# EAGLE library part TA_NDK (library print-key)
SMD Switch not through-hole / SMD Taster nicht durchkontaktiert
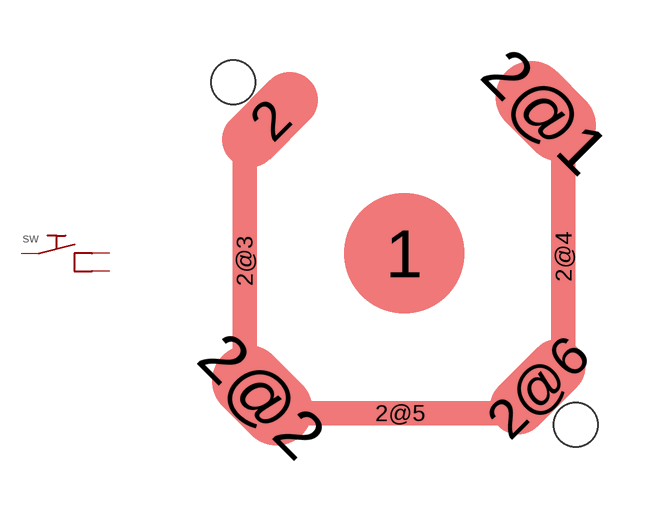
[diagram p3: symbol with the pads of TA_NDK; footprint TA_NDK]

Designator prefix SW

## TA_NDK  [TA_NDK]
1  1  in
2  2  in
2@1  2  in
2@2  2  in
2@3  2  in
2@4  2  in
2@5  2  in
2@6  2  in

## Footprint TA_NDK (pad centres in mm)
Taster nicht Durchkontaktiert Switch not through-hole
smd 3 x 3: 1 0,0
smd 1.4 x 2.8 rotated 135: 2 -3.358,3.338; 2@6 3.334,-3.341
smd 1.8 x 2.8 rotated 45: 2@1 3.537,3.552; 2@2 -3.552,-3.551
smd 0.6 x 6: 2@3 -3.994,-0.189; 2@4 3.98,-0.082
smd 6 x 0.6: 2@5 -0.099,-3.994
hole 1.1 at 4.282,-4.282
hole 1.1 at -4.282,4.282